# Altium footprint library PCB封装.PcbLib: 150 footprints (part 1 of 10)
Each footprint in its own frame and in the unit in brackets; x right, y up, seen from the top. Pads: shape width x height; smd on the part's side, far side on the other; paste and mask are expansions set on the pad; w line width, h text height; cw(c..) or ccw(c..) is an arc to the next point about the centre after c.
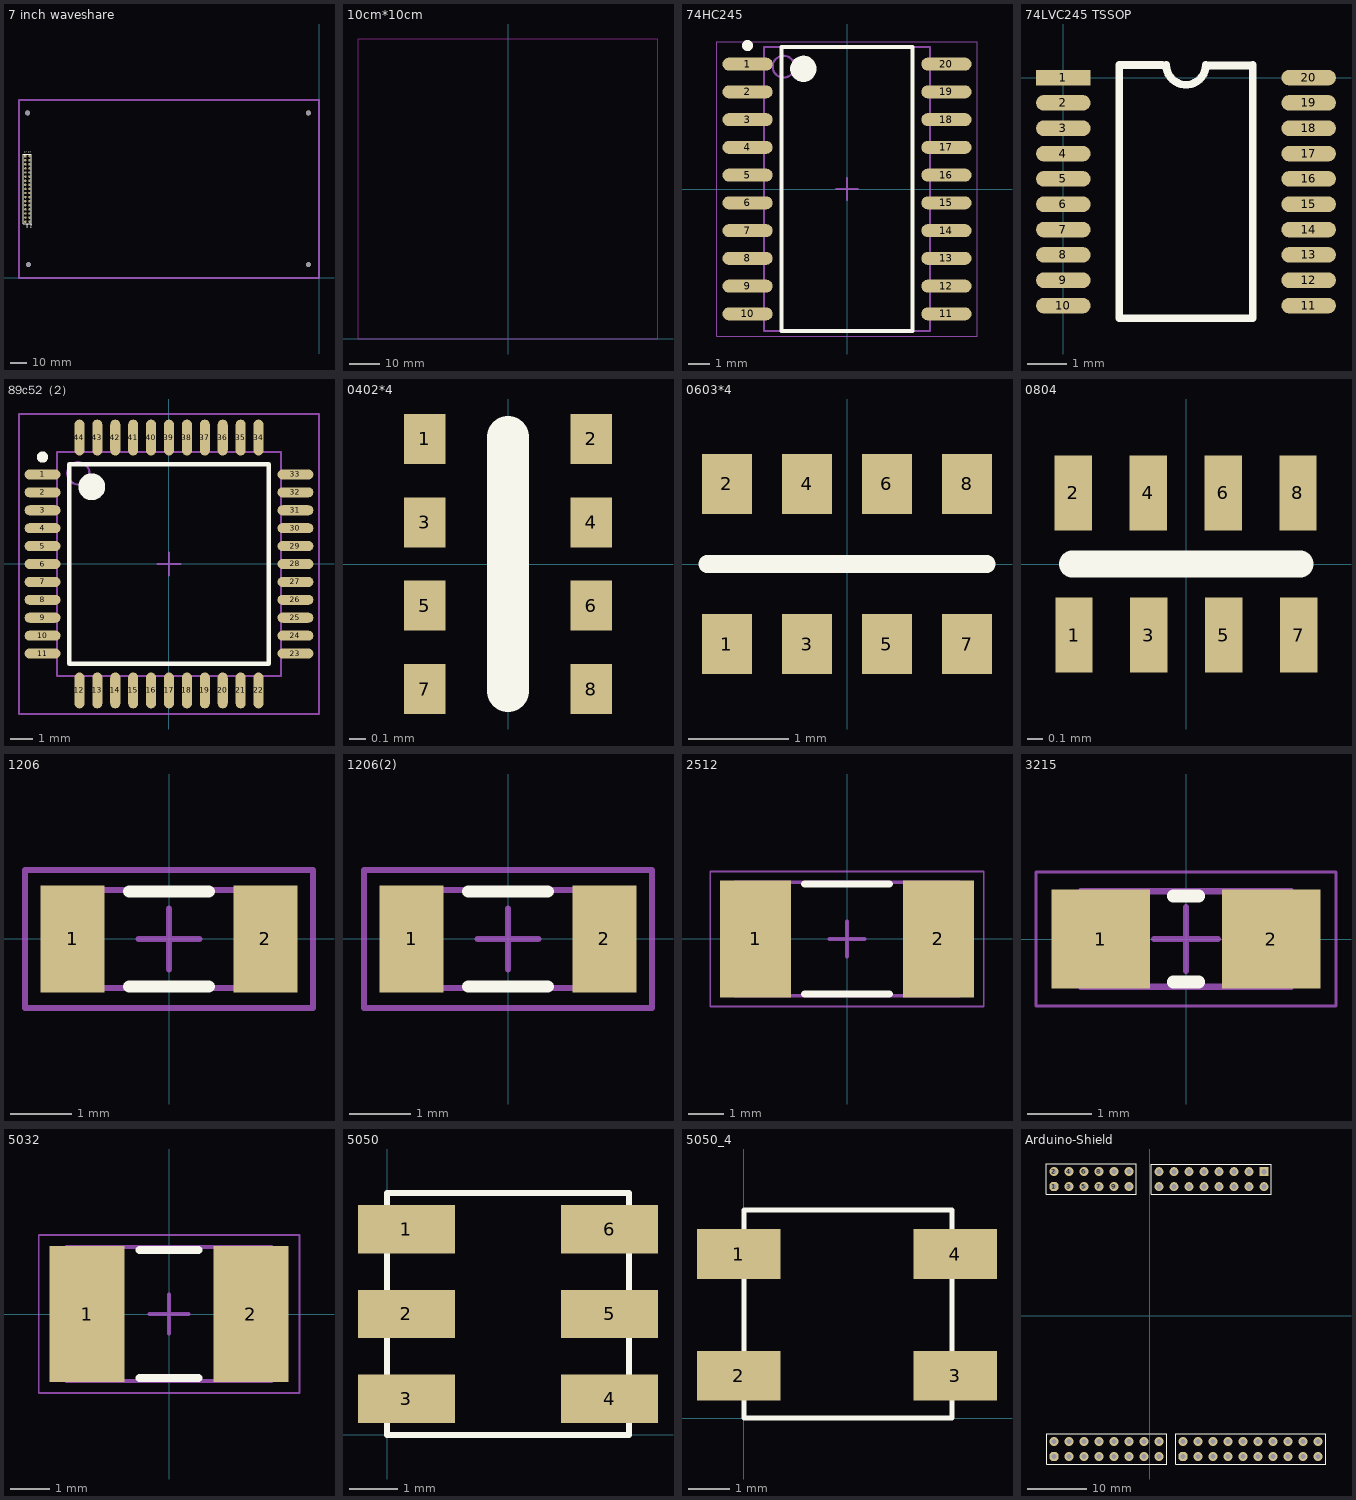
[diagram p0: the footprints below, top view; thin cyan lines are the x and y axes]

## 7 inch waveshare [mm]
pads (38):
  round 3 hole 3: 0(-180.73,102.36) 0(-180.22,8.26) 0(-6.6,8.29) 0(-6.6,102.36)
  rect 1.5x1.5 hole 0.9: 1(-182.118,75.565)
  round 1.5 hole 0.9: 2(-179.578,75.565) 3(-182.118,73.025) 4(-179.578,73.025) 5(-182.118,70.485) 6(-179.578,70.485) 7(-182.118,67.945) 8(-179.578,67.945) 9(-182.118,65.405) 10(-179.578,65.405) 11(-182.118,62.865) 12(-179.578,62.865) 13(-182.118,60.325) 14(-179.578,60.325) 15(-182.118,57.785) 16(-179.578,57.785) 17(-182.118,55.245) 18(-179.578,55.245) 19(-182.118,52.705) 20(-179.578,52.705) 21(-182.118,50.165) 22(-179.578,50.165) 23(-182.118,47.625) 24(-179.578,47.625) 25(-182.118,45.085) 26(-179.578,45.085) 27(-182.118,42.545) 28(-179.578,42.545) 29(-182.118,40.005) 30(-179.578,40.005) 31(-182.118,37.465) 32(-179.578,37.465) 33(-182.118,34.925) 34(-179.578,34.925)
Top Overlay:
  lines w0.2: -183.388,33.65 -178.308,33.65 ; -183.388,33.655 -183.388,76.835 -178.308,76.835 -178.308,33.655
  text "34" at -178.943,33.401 h1.27
  text "33" at -181.483,33.401 h1.27
  text "1" at -182.626,78.613 h1.27
  text "2" at -180.086,78.613 h1.27
Mechanical 15:
  lines w1: -186.06,0 0,0 0,110.36 -186.06,110.36 -186.06,0
3D body "HEADER.STEP": height 7.58, standoff -2.94, extent -183.388,74.295 -180.848,76.835
3D body "HEADER.STEP": height 7.58, standoff -2.94, extent -183.388,71.755 -180.848,74.295
3D body "HEADER.STEP": height 7.58, standoff -2.94, extent -183.388,69.215 -180.848,71.755
3D body "HEADER.STEP": height 7.58, standoff -2.94, extent -183.388,66.675 -180.848,69.215
3D body "HEADER.STEP": height 7.58, standoff -2.94, extent -180.848,74.295 -178.308,76.835
3D body "HEADER.STEP": height 7.58, standoff -2.94, extent -180.848,71.755 -178.308,74.295
3D body "HEADER.STEP": height 7.58, standoff -2.94, extent -180.848,69.215 -178.308,71.755
3D body "HEADER.STEP": height 7.58, standoff -2.94, extent -180.848,66.675 -178.308,69.215
3D body "HEADER.STEP": height 7.58, standoff -2.94, extent -183.388,64.135 -180.848,66.675
3D body "HEADER.STEP": height 7.58, standoff -2.94, extent -183.388,61.595 -180.848,64.135
3D body "HEADER.STEP": height 7.58, standoff -2.94, extent -183.388,59.055 -180.848,61.595
3D body "HEADER.STEP": height 7.58, standoff -2.94, extent -183.388,56.515 -180.848,59.055
3D body "HEADER.STEP": height 7.58, standoff -2.94, extent -180.848,64.135 -178.308,66.675
3D body "HEADER.STEP": height 7.58, standoff -2.94, extent -180.848,61.595 -178.308,64.135
3D body "HEADER.STEP": height 7.58, standoff -2.94, extent -180.848,59.055 -178.308,61.595
3D body "HEADER.STEP": height 7.58, standoff -2.94, extent -180.848,56.515 -178.308,59.055
3D body "HEADER.STEP": height 7.58, standoff -2.94, extent -183.388,53.975 -180.848,56.515
3D body "HEADER.STEP": height 7.58, standoff -2.94, extent -183.388,51.435 -180.848,53.975
3D body "HEADER.STEP": height 7.58, standoff -2.94, extent -183.388,48.895 -180.848,51.435
3D body "HEADER.STEP": height 7.58, standoff -2.94, extent -183.388,46.355 -180.848,48.895
3D body "HEADER.STEP": height 7.58, standoff -2.94, extent -180.848,53.975 -178.308,56.515
3D body "HEADER.STEP": height 7.58, standoff -2.94, extent -180.848,51.435 -178.308,53.975
3D body "HEADER.STEP": height 7.58, standoff -2.94, extent -180.848,48.895 -178.308,51.435
3D body "HEADER.STEP": height 7.58, standoff -2.94, extent -180.848,46.355 -178.308,48.895
3D body "HEADER.STEP": height 7.58, standoff -2.94, extent -183.388,43.815 -180.848,46.355
3D body "HEADER.STEP": height 7.58, standoff -2.94, extent -183.388,41.275 -180.848,43.815
3D body "HEADER.STEP": height 7.58, standoff -2.94, extent -183.388,38.735 -180.848,41.275
3D body "HEADER.STEP": height 7.58, standoff -2.94, extent -183.388,36.195 -180.848,38.735
3D body "HEADER.STEP": height 7.58, standoff -2.94, extent -180.848,43.815 -178.308,46.355
3D body "HEADER.STEP": height 7.58, standoff -2.94, extent -180.848,41.275 -178.308,43.815
3D body "HEADER.STEP": height 7.58, standoff -2.94, extent -180.848,38.735 -178.308,41.275
3D body "HEADER.STEP": height 7.58, standoff -2.94, extent -180.848,36.195 -178.308,38.735
3D body "HEADER.STEP": height 7.58, standoff -2.94, extent -183.388,33.655 -180.848,36.195
3D body "HEADER.STEP": height 7.58, standoff -2.94, extent -180.848,33.655 -178.308,36.195

## 10cm*10cm [mm]
Keep-Out Layer:
  lines w0.254: -50,0 50,0 50,100 -50,100 -50,0

## 74HC245 [mm] "SOIC, 20-Leads, Body 12.80x7.50mm, Pitch 1.27mm, IPC Medium Density"
height 2.65
pads (20):
  oval 2.3x0.6 smd: 1(-4.55,5.715) 2(-4.55,4.445) 3(-4.55,3.175) 4(-4.55,1.905) 5(-4.55,0.635) 6(-4.55,-0.635) 7(-4.55,-1.905) 8(-4.55,-3.175) 9(-4.55,-4.445) 10(-4.55,-5.715) 11(4.55,-5.715) 12(4.55,-4.445) 13(4.55,-3.175) 14(4.55,-1.905) 15(4.55,-0.635) 16(4.55,0.635) 17(4.55,1.905) 18(4.55,3.175) 19(4.55,4.445) 20(4.55,5.715)
Top Overlay:
  circle w0.6: c-2,5.5 r0.3
  circle w0.25: c-4.55,6.565 r0.125
  lines w0.2: -3,-6.5 3,-6.5 3,6.5 -3,6.5 -3,-6.5
Mechanical 13:
  circle w0.1: c-2.9,5.6 r0.5
  lines w0.1: -3.8,-6.5 3.8,-6.5 3.8,6.5 -3.8,6.5 -3.8,-6.5
Mechanical 15:
  lines w0.05: -5.95,-6.75 5.95,-6.75 5.95,6.75 -5.95,6.75 -5.95,-6.75
  lines w0.1: -0.5,0 0.5,0 ; 0,-0.5 0,0.5
3D body: height 2.65, standoff 0.25, extent -3.8,-6.5 3.8,6.5

## 74LVC245 TSSOP [mm]
height 0.6
pads (20):
  rect 1.4x0.4 smd: 1(0,0)
  oval 1.4x0.4 smd: 2(0,-0.65) 3(0,-1.3) 4(0,-1.95) 5(0,-2.6) 6(0,-3.25) 7(0,-3.9) 8(0,-4.55) 9(0,-5.2) 10(0,-5.85) 11(6.3,-5.85) 12(6.3,-5.2) 13(6.3,-4.55) 14(6.3,-3.9) 15(6.3,-3.25) 16(6.3,-2.6) 17(6.3,-1.95) 18(6.3,-1.3) 19(6.3,-0.65) 20(6.3,0)
Top Overlay:
  lines w0.2: 2.54,0.325 1.435,0.325 1.435,-6.175 4.865,-6.175 4.865,0.325 ; 2.642,0.325 ccw(c3.15,0.325) 3.658,0.325 ; 3.683,0.31 4.788,0.31

## 89c52（2） [mm]
pads (44):
  oval 1.6x0.45 smd: 1(-5.65,4) 2(-5.65,3.2) 3(-5.65,2.4) 4(-5.65,1.6) 5(-5.65,0.8) 6(-5.65,0) 7(-5.65,-0.8) 8(-5.65,-1.6) 9(-5.65,-2.4) 10(-5.65,-3.2) 11(-5.65,-4) 23(5.65,-4) 24(5.65,-3.2) 25(5.65,-2.4) 26(5.65,-1.6) 27(5.65,-0.8) 28(5.65,0) 29(5.65,0.8) 30(5.65,1.6) 31(5.65,2.4) 32(5.65,3.2) 33(5.65,4)
  oval 0.45x1.6 smd: 12(-4,-5.65) 13(-3.2,-5.65) 14(-2.4,-5.65) 15(-1.6,-5.65) 16(-0.8,-5.65) 17(0,-5.65) 18(0.8,-5.65) 19(1.6,-5.65) 20(2.4,-5.65) 21(3.2,-5.65) 22(4,-5.65) 34(4,5.65) 35(3.2,5.65) 36(2.4,5.65) 37(1.6,5.65) 38(0.8,5.65) 39(0,5.65) 40(-0.8,5.65) 41(-1.6,5.65) 42(-2.4,5.65) 43(-3.2,5.65) 44(-4,5.65)
Top Overlay:
  circle w0.6: c-3.45,3.45 r0.3
  circle w0.25: c-5.65,4.775 r0.125
  lines w0.2: -4.45,-4.45 4.45,-4.45 4.45,4.45 -4.45,4.45 -4.45,-4.45
Mechanical 13:
  circle w0.1: c-4.05,4.05 r0.5
  lines w0.1: -5,-5 5,-5 5,5 -5,5 -5,-5
Mechanical 15:
  lines w0.1: -0.5,0 0.5,0 ; 0,-0.5 0,0.5 ; -6.7,-6.7 6.7,-6.7 6.7,6.7 -6.7,6.7 -6.7,-6.7
3D body: height 1.6, standoff 0.1, extent -5,-5 5,5

## 0402*4 [mm]
pads (8):
  rect 0.25x0.3 smd: 1(-0.5,0.75) 2(0.5,0.75) 3(-0.5,0.25) 4(0.5,0.25) 5(-0.5,-0.25) 6(0.5,-0.25) 7(-0.5,-0.75) 8(0.5,-0.75)
Top Overlay:
  lines w0.254: 0,-0.762 0,0.762

## 0603*4 [mm]
height 0.5
pads (8):
  rect 0.5x0.6 smd: 1(-1.2,-0.8) 2(-1.2,0.8) 3(-0.4,-0.8) 4(-0.4,0.8) 5(0.4,-0.8) 6(0.4,0.8) 7(1.2,-0.8) 8(1.2,0.8)
Top Overlay:
  lines w0.178: -1.397,0 1.397,0

## 0804 [mm]
pads (8):
  rect 0.25x0.5 smd: 1(-0.75,-0.475) 2(-0.754,0.475) 3(-0.25,-0.475) 4(-0.254,0.475) 5(0.25,-0.475) 6(0.246,0.475) 7(0.75,-0.475) 8(0.746,0.475)
Top Overlay:
  lines w0.178: -0.762,0 0.762,0

## 1206 [mm]
pads (2):
  rect 1.05x1.75 smd: 1(-1.575,0) 2(1.575,0)
Top Overlay:
  lines w0.2: -0.65,-0.775 0.65,-0.775 ; -0.65,0.775 0.65,0.775
Mechanical 13:
  lines w0.1: -1.6,-0.8 -1.6,0.8 1.6,0.8 1.6,-0.8 -1.6,-0.8
Mechanical 15:
  lines w0.1: -0.5,0 0.5,0 ; 0,-0.5 0,0.5 ; -2.35,-1.125 -2.35,1.125 2.35,1.125 2.35,-1.125 -2.35,-1.125
3D body: height 1.6, standoff 0, extent -1.6,-0.8 1.6,0.8

## 1206(2) [mm]
pads (2):
  rect 1.05x1.75 smd: 1(-1.575,0) 2(1.575,0)
Top Overlay:
  lines w0.2: -0.65,-0.775 0.65,-0.775 ; -0.65,0.775 0.65,0.775
Mechanical 13:
  lines w0.1: -1.6,-0.8 1.6,-0.8 1.6,0.8 -1.6,0.8 -1.6,-0.8
Mechanical 15:
  lines w0.1: -0.5,0 0.5,0 ; 0,-0.5 0,0.5 ; -2.35,-1.125 2.35,-1.125 2.35,1.125 -2.35,1.125 -2.35,-1.125
3D body: height 1.6, standoff 0, extent -1.6,-0.8 1.6,0.8

## 2512 [mm]
height 0.65
pads (2):
  rect 2x3.3 smd: 1(-2.575,0) 2(2.575,0)
Top Overlay:
  lines w0.2: -1.2,-1.55 1.2,-1.55 ; -1.2,1.55 1.2,1.55
Mechanical 13:
  lines w0.1: -3.175,-1.6 3.175,-1.6 3.175,1.6 -3.175,1.6 -3.175,-1.6
Mechanical 15:
  lines w0.05: -3.85,-1.9 3.85,-1.9 3.85,1.9 -3.85,1.9 -3.85,-1.9
  lines w0.1: -0.5,0 0.5,0 ; 0,-0.5 0,0.5
3D body: height 0.65, standoff 0, extent 1.525,-1.6 3.175,1.6
3D body: height 0.65, standoff 0, extent -3.175,-1.6 -1.525,1.6
3D body: height 0.65, standoff 0, extent -1.525,-1.6 1.525,1.6

## 3215 [mm]
height 0.75
pads (2):
  rect 1.54x1.55 smd: 1(-1.335,0) 2(1.335,0)
Top Overlay:
  lines w0.2: -0.2,-0.675 0.2,-0.675 ; -0.2,0.675 0.2,0.675
Mechanical 13:
  lines w0.1: -1.65,-0.75 1.65,-0.75 1.65,0.75 -1.65,0.75 -1.65,-0.75
Mechanical 15:
  lines w0.05: -2.35,-1.05 2.35,-1.05 2.35,1.05 -2.35,1.05 -2.35,-1.05
  lines w0.1: -0.5,0 0.5,0 ; 0,-0.5 0,0.5
3D body: height 0.75, standoff 0, extent 0.62,-0.75 1.65,0.75
3D body: height 0.75, standoff 0, extent -1.65,-0.75 -0.62,0.75
3D body: height 0.75, standoff 0, extent -0.62,-0.75 0.62,0.75

## 5032 [mm]
height 1.3
pads (2):
  rect 1.9x3.45 smd: 1(-2.075,0) 2(2.075,0)
Top Overlay:
  lines w0.2: -0.75,-1.625 0.75,-1.625 ; -0.75,1.625 0.75,1.625
Mechanical 13:
  lines w0.1: -2.6,-1.7 -2.6,1.7 2.6,1.7 2.6,-1.7 -2.6,-1.7
Mechanical 15:
  lines w0.05: -3.3,-2 -3.3,2 3.3,2 3.3,-2 -3.3,-2
  lines w0.1: -0.5,0 0.5,0 ; 0,-0.5 0,0.5
3D body: height 1.3, standoff 0, extent -1.3,-1.7 1.3,1.7
3D body: height 1.3, standoff 0, extent -2.6,-1.7 -1.3,1.7
3D body: height 1.3, standoff 0, extent 1.3,-1.7 2.6,1.7

## 5050 [mm]
pads (6):
  rect 2x1 smd: 1(0.4,4.25) 2(0.4,2.5) 3(0.4,0.75) 4(4.6,0.75) 5(4.6,2.5) 6(4.6,4.25)
Top Overlay:
  lines w0.127: 0,0 5,0 5,5 0,5 0,0

## 5050_4 [mm]
pads (4):
  rect 2x1.2 smd: 1(-0.127,3.937) 2(-0.127,1.016) 3(5.08,1.016) 4(5.08,3.937)
Top Overlay:
  lines w0.127: 0,0 0,5 5,5 5,0 0,0

## Arduino-Shield [mm]
pads (64):
  oct 1.5x1.5 hole 0.9: 1(-16.218,21.882) 29(-16.218,-23.838) 45(5.626,-23.838)
  round 1.5 hole 0.9: 2(-16.218,24.422) 3(-13.678,21.882) 4(-13.678,24.422) 5(-11.138,21.882) 6(-11.138,24.422) 7(-8.598,21.882) 8(-8.598,24.422) 9(-6.058,21.882) 10(-6.058,24.422) 11(-3.518,21.882) 12(-3.518,24.422) 13(1.557,21.862) 14(1.557,24.402) 15(4.097,21.862) 16(4.097,24.402) 17(6.637,21.862) 18(6.637,24.402) 19(9.177,21.862) 20(9.177,24.402) 21(11.717,21.862) 22(11.717,24.402) 23(14.257,21.862) 24(14.257,24.402) 25(16.797,21.862) 26(16.797,24.402) 27(19.337,21.862) 30(-16.218,-21.298) 31(-13.678,-23.838) 32(-13.678,-21.298) 33(-11.138,-23.838) 34(-11.138,-21.298) 35(-8.598,-23.838) 36(-8.598,-21.298) 37(-6.058,-23.838) 38(-6.058,-21.298) 39(-3.518,-23.838) 40(-3.518,-21.298) 41(-0.978,-23.838) 42(-0.978,-21.298) 43(1.562,-23.838) 44(1.562,-21.298) 46(5.626,-21.298) 47(8.166,-23.838) 48(8.166,-21.298) 49(10.706,-23.838) 50(10.706,-21.298) 51(13.246,-23.838) 52(13.246,-21.298) 53(15.786,-23.838) 54(15.786,-21.298) 55(18.326,-23.838) 56(18.326,-21.298) 57(20.866,-23.838) 58(20.866,-21.298) 59(23.406,-23.838) 60(23.406,-21.298) 61(25.946,-23.838) 62(25.946,-21.298) 63(28.486,-23.838) 64(28.486,-21.298)
  rect 1.5x1.5 hole 0.9: 28(19.337,24.402)
Top Overlay:
  lines w0.2: -17.488,-25.108 2.832,-25.108 2.832,-20.028 -17.488,-20.028 -17.488,-25.108 ; -17.488,20.612 -2.248,20.612 -2.248,25.692 -17.488,25.692 -17.488,20.612 ; 0.287,20.592 20.607,20.592 20.607,25.672 0.287,25.672 0.287,20.592 ; 4.356,-25.108 4.356,-20.028 6.261,-20.028 29.756,-20.028 29.756,-25.108 6.261,-25.108 4.356,-25.108
3D body "HEADER.STEP": height 7.58, standoff -2.94, extent -4.788,23.152 -2.248,25.692
3D body "HEADER.STEP": height 7.58, standoff -2.94, extent -4.788,20.612 -2.248,23.152
3D body "HEADER.STEP": height 7.58, standoff -2.94, extent -7.328,23.152 -4.788,25.692
3D body "HEADER.STEP": height 7.58, standoff -2.94, extent -7.328,20.612 -4.788,23.152
3D body "HEADER.STEP": height 7.58, standoff -2.94, extent -9.868,23.152 -7.328,25.692
3D body "HEADER.STEP": height 7.58, standoff -2.94, extent -9.868,20.612 -7.328,23.152
3D body "HEADER.STEP": height 7.58, standoff -2.94, extent -12.408,23.152 -9.868,25.692
3D body "HEADER.STEP": height 7.58, standoff -2.94, extent -12.408,20.612 -9.868,23.152
3D body "HEADER.STEP": height 7.58, standoff -2.94, extent -14.948,23.152 -12.408,25.692
3D body "HEADER.STEP": height 7.58, standoff -2.94, extent -14.948,20.612 -12.408,23.152
3D body "HEADER.STEP": height 7.58, standoff -2.94, extent -17.488,23.152 -14.948,25.692
3D body "HEADER.STEP": height 7.58, standoff -2.94, extent -17.488,20.612 -14.948,23.152
3D body "HEADER.STEP": height 7.58, standoff -2.94, extent 27.216,-22.568 29.756,-20.028
3D body "HEADER.STEP": height 7.58, standoff -2.94, extent 27.216,-25.108 29.756,-22.568
3D body "HEADER.STEP": height 7.58, standoff -2.94, extent 24.676,-22.568 27.216,-20.028
3D body "HEADER.STEP": height 7.58, standoff -2.94, extent 24.676,-25.108 27.216,-22.568
3D body "HEADER.STEP": height 7.58, standoff -2.94, extent 22.136,-22.568 24.676,-20.028
3D body "HEADER.STEP": height 7.58, standoff -2.94, extent 22.136,-25.108 24.676,-22.568
3D body "HEADER.STEP": height 7.58, standoff -2.94, extent 19.596,-22.568 22.136,-20.028
3D body "HEADER.STEP": height 7.58, standoff -2.94, extent 19.596,-25.108 22.136,-22.568
3D body "HEADER.STEP": height 7.58, standoff -2.94, extent 17.056,-22.568 19.596,-20.028
3D body "HEADER.STEP": height 7.58, standoff -2.94, extent 17.056,-25.108 19.596,-22.568
3D body "HEADER.STEP": height 7.58, standoff -2.94, extent 14.516,-22.568 17.056,-20.028
3D body "HEADER.STEP": height 7.58, standoff -2.94, extent 14.516,-25.108 17.056,-22.568
3D body "HEADER.STEP": height 7.58, standoff -2.94, extent 11.976,-22.568 14.516,-20.028
3D body "HEADER.STEP": height 7.58, standoff -2.94, extent 11.976,-25.108 14.516,-22.568
3D body "HEADER.STEP": height 7.58, standoff -2.94, extent 9.436,-22.568 11.976,-20.028
3D body "HEADER.STEP": height 7.58, standoff -2.94, extent 9.436,-25.108 11.976,-22.568
3D body "HEADER.STEP": height 7.58, standoff -2.94, extent 6.896,-22.568 9.436,-20.028
3D body "HEADER.STEP": height 7.58, standoff -2.94, extent 6.896,-25.108 9.436,-22.568
3D body "HEADER.STEP": height 7.58, standoff -2.94, extent 4.356,-22.568 6.896,-20.028
3D body "HEADER.STEP": height 7.58, standoff -2.94, extent 4.356,-25.108 6.896,-22.568
3D body "HEADER.STEP": height 7.58, standoff -2.94, extent 0.292,-22.568 2.832,-20.028
3D body "HEADER.STEP": height 7.58, standoff -2.94, extent 0.292,-25.108 2.832,-22.568
3D body "HEADER.STEP": height 7.58, standoff -2.94, extent -2.248,-22.568 0.292,-20.028
3D body "HEADER.STEP": height 7.58, standoff -2.94, extent -2.248,-25.108 0.292,-22.568
3D body "HEADER.STEP": height 7.58, standoff -2.94, extent -4.788,-22.568 -2.248,-20.028
3D body "HEADER.STEP": height 7.58, standoff -2.94, extent -4.788,-25.108 -2.248,-22.568
3D body "HEADER.STEP": height 7.58, standoff -2.94, extent -7.328,-22.568 -4.788,-20.028
3D body "HEADER.STEP": height 7.58, standoff -2.94, extent -7.328,-25.108 -4.788,-22.568
3D body "HEADER.STEP": height 7.58, standoff -2.94, extent -9.868,-22.568 -7.328,-20.028
3D body "HEADER.STEP": height 7.58, standoff -2.94, extent -9.868,-25.108 -7.328,-22.568
3D body "HEADER.STEP": height 7.58, standoff -2.94, extent -12.408,-22.568 -9.868,-20.028
3D body "HEADER.STEP": height 7.58, standoff -2.94, extent -12.408,-25.108 -9.868,-22.568
3D body "HEADER.STEP": height 7.58, standoff -2.94, extent -14.948,-22.568 -12.408,-20.028
3D body "HEADER.STEP": height 7.58, standoff -2.94, extent -14.948,-25.108 -12.408,-22.568
3D body "HEADER.STEP": height 7.58, standoff -2.94, extent -17.488,-22.568 -14.948,-20.028
3D body "HEADER.STEP": height 7.58, standoff -2.94, extent -17.488,-25.108 -14.948,-22.568
3D body "HEADER.STEP": height 7.58, standoff -2.94, extent 0.287,20.592 2.827,23.132
3D body "HEADER.STEP": height 7.58, standoff -2.94, extent 0.287,23.132 2.827,25.672
3D body "HEADER.STEP": height 7.58, standoff -2.94, extent 2.827,20.592 5.367,23.132
3D body "HEADER.STEP": height 7.58, standoff -2.94, extent 2.827,23.132 5.367,25.672
3D body "HEADER.STEP": height 7.58, standoff -2.94, extent 5.367,20.592 7.907,23.132
3D body "HEADER.STEP": height 7.58, standoff -2.94, extent 5.367,23.132 7.907,25.672
3D body "HEADER.STEP": height 7.58, standoff -2.94, extent 7.907,20.592 10.447,23.132
3D body "HEADER.STEP": height 7.58, standoff -2.94, extent 7.907,23.132 10.447,25.672
3D body "HEADER.STEP": height 7.58, standoff -2.94, extent 10.447,20.592 12.987,23.132
3D body "HEADER.STEP": height 7.58, standoff -2.94, extent 10.447,23.132 12.987,25.672
3D body "HEADER.STEP": height 7.58, standoff -2.94, extent 12.987,20.592 15.527,23.132
3D body "HEADER.STEP": height 7.58, standoff -2.94, extent 12.987,23.132 15.527,25.672
3D body "HEADER.STEP": height 7.58, standoff -2.94, extent 15.527,20.592 18.067,23.132
3D body "HEADER.STEP": height 7.58, standoff -2.94, extent 15.527,23.132 18.067,25.672
3D body "HEADER.STEP": height 7.58, standoff -2.94, extent 18.067,20.592 20.607,23.132
3D body "HEADER.STEP": height 7.58, standoff -2.94, extent 18.067,23.132 20.607,25.672